# EAGLE library part MT88E43 (library MT88E43)
MT88E43 Source: https://www.microsemi.com/product-directory/caller-id/4306-mt88e43b#resources
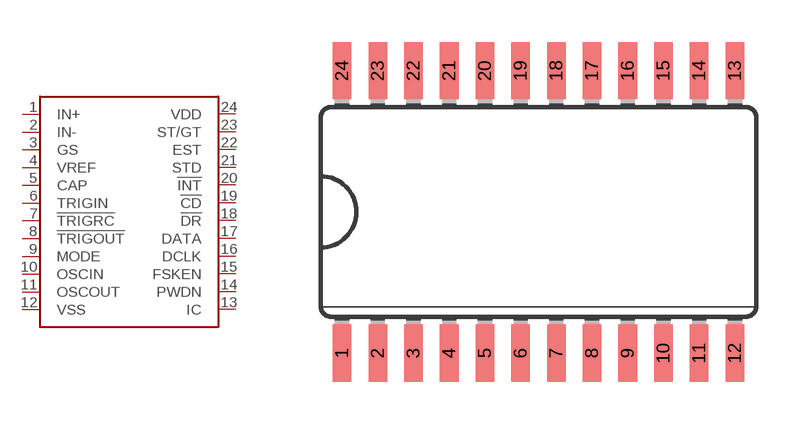
[diagram p0: symbol with the pads of SO24W; footprint SO24W]

Designator prefix IC

## MT88E43B  [SO24W]
1  IN+  in
2  IN-  in
3  GS  out
4  VREF  out
5  CAP  in
6  TRIGIN  in
7  !TRIGRC  in
8  !TRIGOUT  out
9  MODE  in
10  OSCIN  in
11  OSCOUT  out
12  VSS  pwr
13  IC  in
14  PWDN  in
15  FSKEN  in
16  DCLK
17  DATA  out
18  !DR  out
19  !CD  out
20  !INT  out
21  STD  out
22  EST  out
23  ST/GT
24  VDD  pwr

## Footprint SO24W (pad centres in mm)
Wide Small Outline package 300 mil
smd 0.66 x 2.032: 1 -6.985,-5.029; 2 -5.715,-5.029; 3 -4.445,-5.029; 4 -3.175,-5.029; 5 -1.905,-5.029; 6 -0.635,-5.029; 7 0.635,-5.029; 8 1.905,-5.029; 9 3.175,-5.029; 10 4.445,-5.029; 11 5.715,-5.029; 12 6.985,-5.029; 13 6.985,5.029; 14 5.715,5.029; 15 4.445,5.029; 16 3.175,5.029; 17 1.905,5.029; 18 0.635,5.029; 19 -0.635,5.029; 20 -1.905,5.029; 21 -3.175,5.029; 22 -4.445,5.029; 23 -5.715,5.029; 24 -6.985,5.029